# EAGLE library part AD5290 (library pecs)
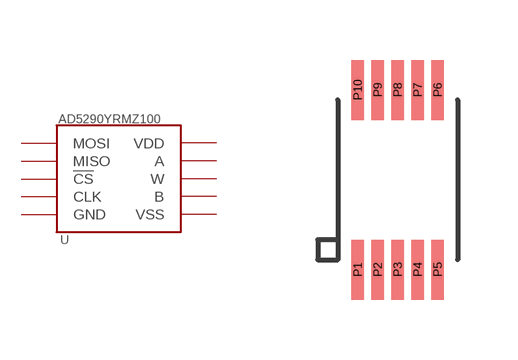
[diagram p1: symbol with the pads of MSOP10; footprint MSOP10]

Designator prefix U

## AD5290  [MSOP10]
P1  A
P2  B
P3  VSS  pwr
P4  GND  pwr
P5  !CS!
P6  CLK
P7  MOSI
P8  MISO
P9  VDD  pwr
P10  W

## Footprint MSOP10 (pad centres in mm)
smd 0.305 x 1.5: P1 0,-0.75; P2 0.5,-0.75; P3 1,-0.75; P4 1.5,-0.75; P5 2,-0.75; P6 2,3.75; P7 1.5,3.75; P8 1,3.75; P9 0.5,3.75; P10 0,3.75